# Altium footprint library CAPAE660X800N.PcbLib: 1 footprints
Each footprint in its own frame and in the unit in brackets; x right, y up, seen from the top. Pads: shape width x height; smd on the part's side, far side on the other; paste and mask are expansions set on the pad; w line width, h text height; cw(c..) or ccw(c..) is an arc to the next point about the centre after c.
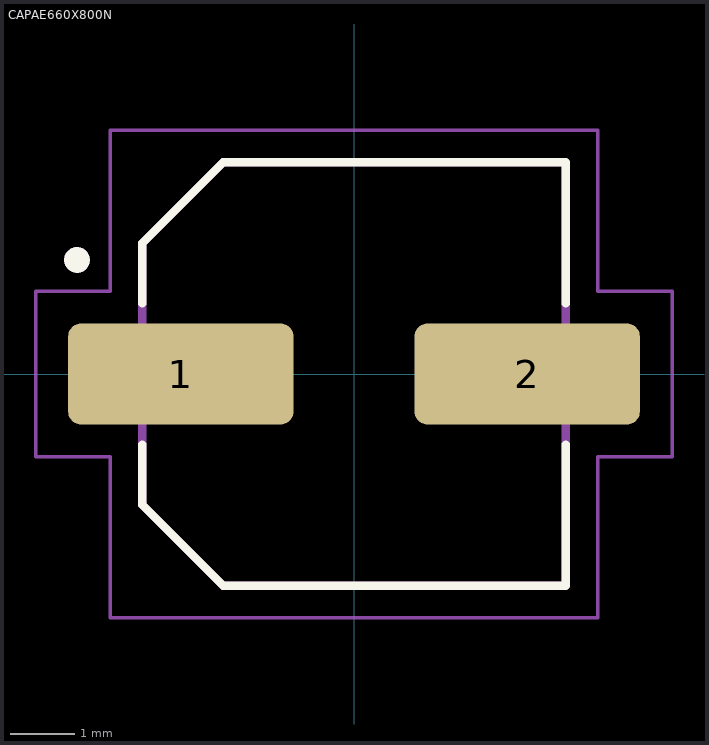
[diagram p0: the footprint, top view; thin cyan lines are the x and y axes]

## CAPAE660X800N [mm]
pads (2):
  rrect25% 3.51x1.58 smd: 1(-2.7,0) 2(2.7,0)
Top Overlay:
  circle w0.2: c-4.318,1.778 r0.1
  lines w0.127: -3.3,-1.1 -3.3,-2.04 -2.04,-3.3 3.3,-3.3 3.3,-1.1 ; -3.3,1.1 -3.3,2.04 -2.04,3.3 3.3,3.3 3.3,1.1
Mechanical 13:
  circle w0.2: c-4.318,1.778 r0.1
  lines w0.127: -3.3,-2.04 -2.04,-3.3 3.3,-3.3 3.3,3.3 -2.04,3.3 -3.3,2.04 -3.3,-2.04
Mechanical 15:
  lines w0.05: -4.96,-1.29 -3.8,-1.29 -3.8,-3.8 3.8,-3.8 3.8,-1.29 4.96,-1.29 4.96,1.29 3.8,1.29 3.8,3.8 -3.8,3.8 -3.8,1.29 -4.96,1.29 -4.96,-1.29
3D body "step_temp.STEP": height 8, standoff 0, extent -3.9,-3.3 3.9,3.3